# EAGLE library part AD8228 (library FaBo-Opamp)
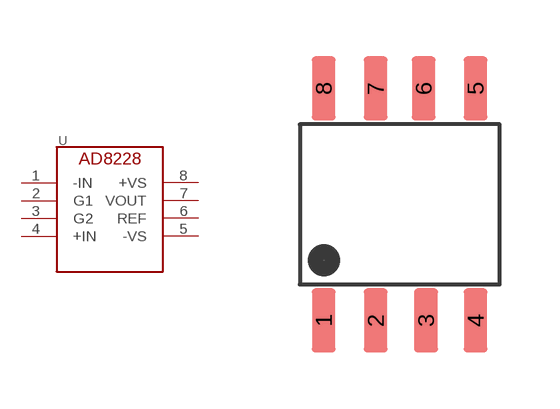
[diagram p0: symbol with the pads of SOIC(NARROW)-8; footprint SOIC(NARROW)-8]

Designator prefix U

## AD8228AD8228  [SOIC(NARROW)-8]
1  -IN
2  G1
3  G2
4  +IN
5  -VS
6  REF
7  VOUT
8  +VS

## Footprint SOIC(NARROW)-8 (pad centres in mm)
smd 0.6 x 1.6: 1 -1.9,-2.9; 2 -0.6,-2.9; 3 0.66,-2.9; 4 1.9,-2.9; 5 1.9,2.9; 6 0.6,2.9; 7 -0.6,2.9; 8 -1.9,2.9